# Altium integrated library 1655.IntLib: 1 symbol
Pins are listed as number, name and electrical type; pins without a type are passive.

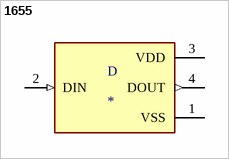
[diagram p0: symbol 1655]

## 1655
designator D
Addressable Lighting Neopixel 10 LED Discrete Serial _Shift Register_ Red, Green, Blue _RGB_ 5.00mm L x 5.00mm W; MF: Adafruit Industries; MP: 1655; Value: *; SnapEDA_Link: https://www.snapeda.com/parts/1655/Adafruit%20Industries%20LLC/view-part/53433/?ref=snap; Price: None; Availability: Unavailable; Package: TSOP-38238 Adafruit Industries
footprint LED_1655
pins: 1 VSS (power), 2 DIN (in), 3 VDD (power), 4 DOUT (out)